# Altium schematic symbol library RPSLib.SchLib: 241 symbols (part 5 of 8)
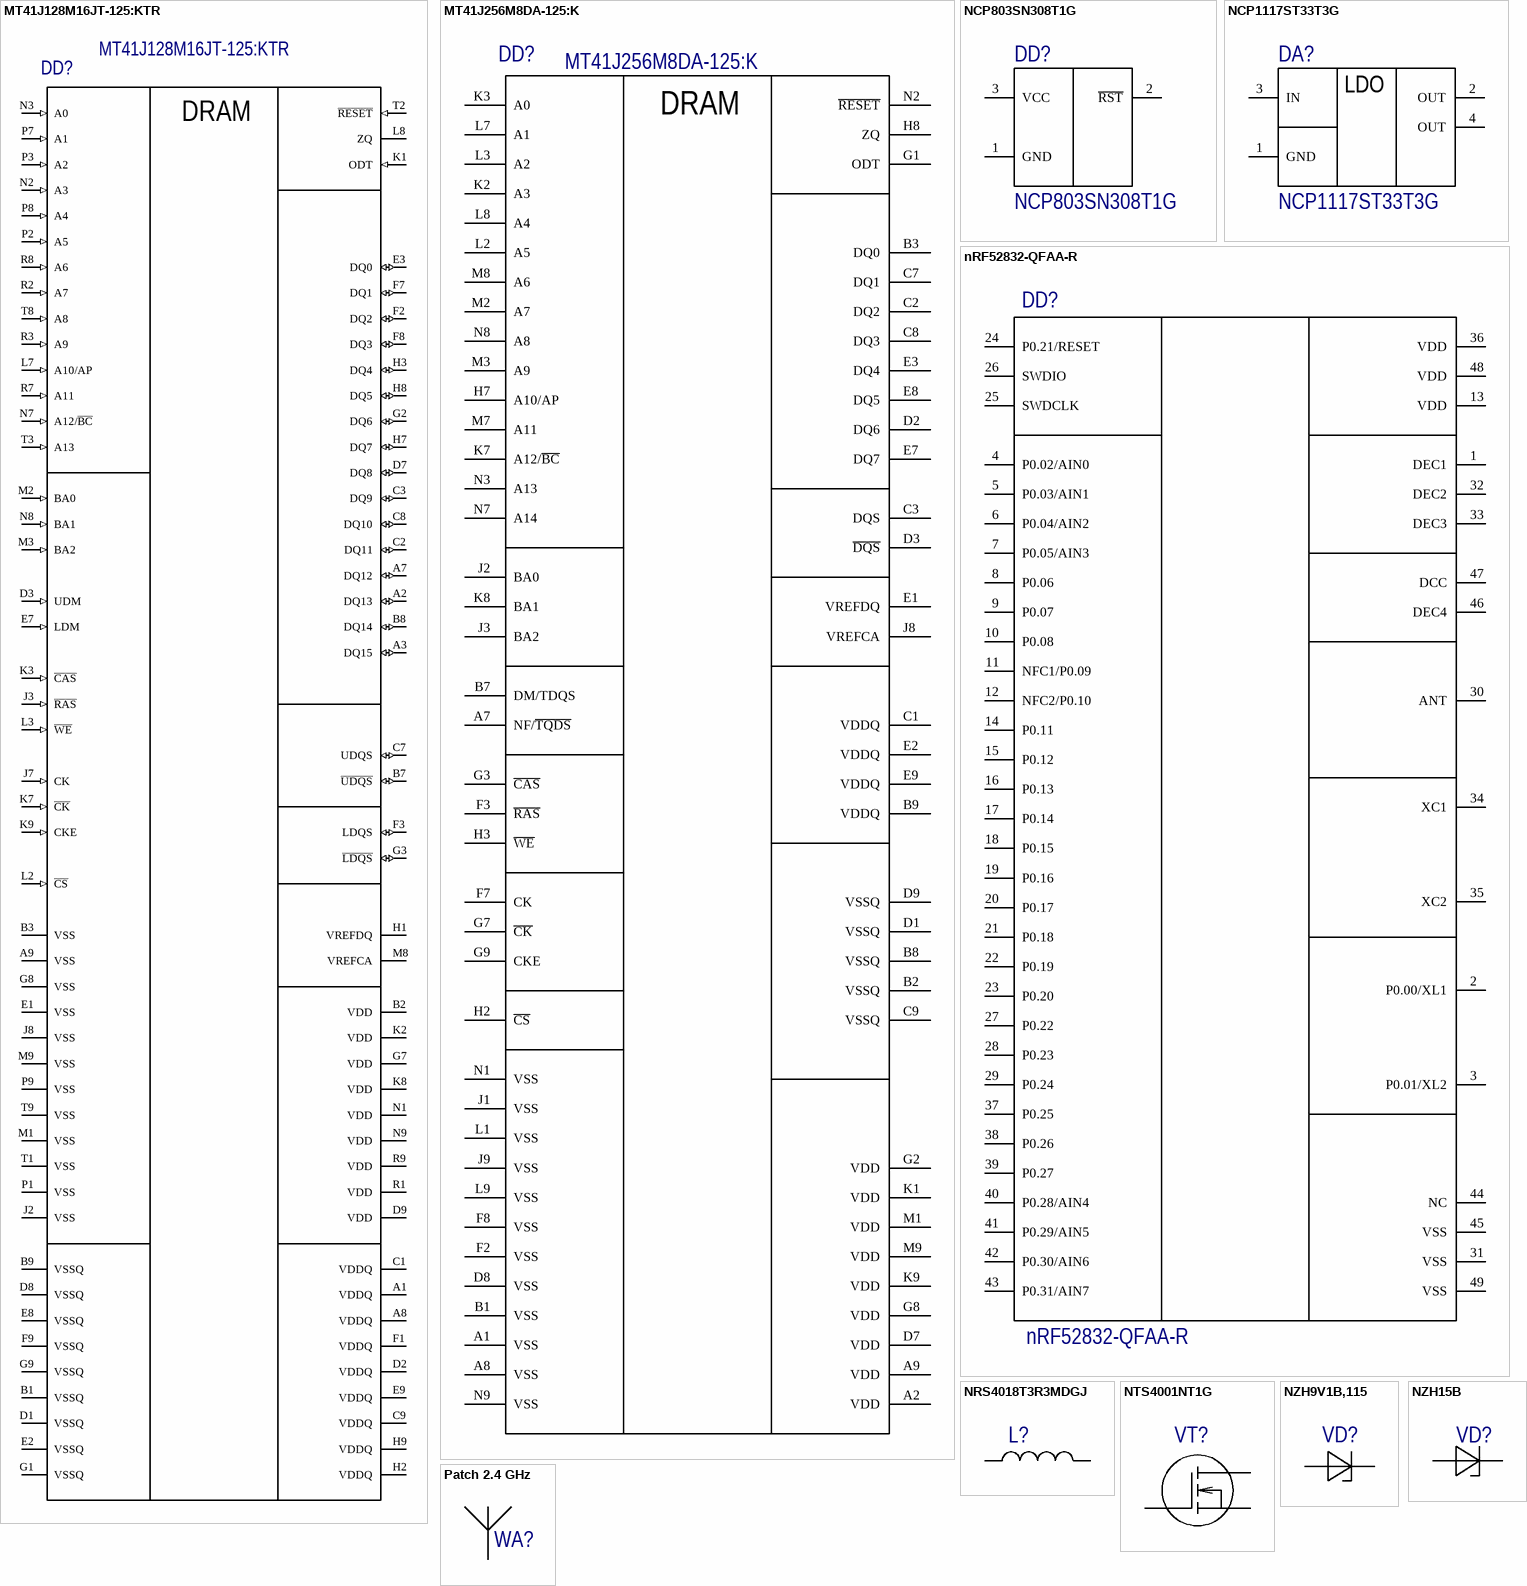
[diagram p29: symbols MT41J128M16JT-125:KTR to Patch 2.4 GHz]

## NCP803SN308T1G
designator DD?
IC MPU RESET MONITOR 3.08V SOT23; Manufacturer: ON Semiconductor; Min Supply Voltage: 1.2V; Max Supply Voltage: 5.5V; Nominal Supply Current: 800nA; Number of Voltages Monitored: 1; Reset: Active Low; Reset Timeout: 140ms; Overvoltage Threshold: 3.11V; Watchdog Timer: No; Min Reset Threshold Voltage: 3.04V; Supplier 1: Digi-Key; Manufacturer Part Number: NCP803SN308T1G; Stock 1: 17057; Pricing 1: 1=0.61, 10=0.534, 100=0.4094, 500=0.32362, 1000=0.2589 (USD); Mount: Surface Mount; Case/Package: SOT-23; Number of Pins: 3; Min Operating Temperature: -40°C; Max Operating Temperature: 105°C; Package Quantity: 3000; Packaging: Tape and Reel; Type: Simple Reset/Power-On Reset; Threshold Voltage: 3.08V; Undervoltage Threshold: 3.08V; Operating Supply Current: 800nA; Number of Elements: 1; Max Reset Threshold Voltage: 3.11V; Length: 2.2mm; Height: 0.9mm; Width: 1.35mm; Radiation Hardening: No; REACH SVHC: No SVHC; Lead Free: Lead Free; Halogen Free: Halogen Free; ComponentLink1URL: http://www.onsemi.cn/pub_link/Collateral/MAX803-D.PDF; ComponentLink1Description: http://www.onsemi.cn/pub_link/Collateral/MAX803-D.PDF; ComponentLink2URL: http://www.onsemi.com/pub/Collateral/MAX803-D.PDF; ComponentLink2Description: http://www.onsemi.com/pub/Collateral/MAX803-D.PDF; ComponentLink3URL: http://www.alliedelec.com/images/products/datasheets/bm/ON_SEMICONDUCTOR/70300500.pdf; ComponentLink3Description: http://www.alliedelec.com/images/products/datasheets/bm/ON_SEMICONDUCTOR/70300500.pdf; ComponentLink4URL: http://datasheet.iiic.cc/on_semiconductor/NCP803SN308T1G.pdf; ComponentLink4Description: http://datasheet.iiic.cc/on_semiconductor/NCP803SN308T1G.pdf; Supplier Part Number 1: NCP803SN308T1GOSCT-ND
footprint SOT95P232X100-3N (SOT23, 3-Leads, Body 2.92x2.32mm, Pitch 0.95mm, IPC Medium Density)
pins: 1 GND (power), 2 ~{RST}, 3 VCC (power)

## NCP1117ST33T3G
designator DA?
ON SEMICONDUCTOR - NCP1117ST33T3G - Fixed LDO Voltage Regulator, 3.5V to 20V In, 1.07V Dropout, 3.3V/1A Out, SOT-223-3; Output Voltage: 3.3V; Number of Outputs: 1; Output Current: 1A; Max Supply Voltage: 15V; Min Supply Voltage: 4.75V; Input Bias Current: 6mA; Quiescent Current: 10mA; Polarity: Positive; Reference Voltage: 1.25V; Accuracy: 1%; Supplier 1: Digi-Key; Manufacturer: ON Semiconductor; Manufacturer Part Number: NCP1117ST33T3G; RoHS: Yes; Category: Voltage Regulators - Linear; Stock 1: 38312; Pricing 1: 1=0,46000, 10=0,39200, 25=0,36560, 100=0,27170, 250=0,22992, 500=0,21946, 1000=0,16198 (USD); Mount: Surface Mount; Case/Package: SOT-223; Number of Pins: 3; Contact Plating: Tin,Matte; Min Operating Temperature: 0°C; Max Operating Temperature: 125°C; Output Type: Fixed; Max Input Voltage: 20V; Packaging: Tape and Reel; Dropout Voltage: 1.07V; Max Output Current: 1A; Package Quantity: 1; Min Input Voltage: 3.5V; Nominal Output Voltage: 3.3V; Number of Regulators: 1; Min Current Limit: 1A; Min Output Voltage: 3.3V; Max Output Voltage: 3.3V; Termination: SMD/SMT; Output Voltage Accuracy: 1%; Length: 6.7mm; Height: 1.69mm; Width: 3.7mm; Radiation Hardening: No; REACH SVHC: No SVHC; Lead Free: Lead Free; Halogen Free: Halogen Free; ComponentLink1URL: https://datasheet.ciiva.com/3224/ncp1117-d-3224144.pdf?src-supplier=Avnet; ComponentLink1Description: https://datasheet.ciiva.com/3224/ncp1117-d-3224144.pdf?src-supplier=Avnet; ComponentLink2URL: https://datasheet.ciiva.com/22697/1726422-22697602.pdf?src-supplier=Element14; ComponentLink2Description: https://datasheet.ciiva.com/22697/1726422-22697602.pdf?src-supplier=Element14; ComponentLink3URL: https://datasheet.ciiva.com/15111/getdatasheetpartid-82718-15111483.pdf?src-supplier=Verical; ComponentLink3Description: https://datasheet.ciiva.com/15111/getdatasheetpartid-82718-15111483.pdf?src-supplier=Verical; ComponentLink4URL: https://datasheet.ciiva.com/2042/ncp1117-d-2042028.pdf?src-supplier=Digi-Key; ComponentLink4Description: https://datasheet.ciiva.com/2042/ncp1117-d-2042028.pdf?src-supplier=Digi-Key; ComponentLink5URL: https://datasheet.ciiva.com/8233/ncp1117-d-8233589.pdf?src-supplier=Avnet; ComponentLink5Description: https://datasheet.ciiva.com/8233/ncp1117-d-8233589.pdf?src-supplier=Avnet; ComponentLink6URL: https://datasheet.ciiva.com/2042/ncp1117-d-2042027.pdf?src-supplier=Digi-Key; ComponentLink6Description: https://datasheet.ciiva.com/2042/ncp1117-d-2042027.pdf?src-supplier=Digi-Key; ComponentLink7URL: https://datasheet.ciiva.com/16382/ncp1117-d-16382636.pdf?src-supplier=Future+Electronics; ComponentLink7Description: https://datasheet.ciiva.com/16382/ncp1117-d-16382636.pdf?src-supplier=Future+Electronics; ComponentLink8URL: https://datasheet.ciiva.com/8073/1726422-8073735.pdf?src-supplier=Element14; ComponentLink8Description: https://datasheet.ciiva.com/8073/1726422-8073735.pdf?src-supplier=Element14; ComponentLink9URL: https://datasheet.ciiva.com/28483/1748260-28483307.pdf?src-supplier=Element14; ComponentLink9Description: https://datasheet.ciiva.com/28483/1748260-28483307.pdf?src-supplier=Element14; ComponentLink10URL: https://datasheet.ciiva.com/2042/ncp1117-d-2042029.pdf?src-supplier=Digi-Key; ComponentLink10Description: https://datasheet.ciiva.com/2042/ncp1117-d-2042029.pdf?src-supplier=Digi-Key; Supplier Part Number 1: NCP1117ST33T3GOSCT-ND
footprint SOT230P700X180-4N (SOT223, 4-Leads, Body 6,50x7,00mm (avg), Pitch 2,30mm, IPC Medium Density)
pins: 1 GND (power), 2 OUT, 3 IN, 4 OUT
text: LDO

## nRF52832-QFAA-R
designator DD?
IC RF TxRx + MCU Bluetooth, General ISM > 1GHz Bluetooth v4.1 2.4GHz 48-VFQFN Exposed Pad; Manufacturer: Nordic Semiconductor; Manufacturer Part Number: NRF52832-QFAA-R7; Data Rate: 2Mbps; Sensitivity: -96dBm; Memory Size: 64KB; Number of GPIO: 32; Interface: I2C,SPI,UART; Memory Type: FLASH; Current - Receiving: 10.4mA; Current - Transmitting: 15.2mA; Data Bus Width: 32b; Core Architecture: ARM; РКД Наименование: NRF52832-QFAA - RF TxRx MCU Bluetooth IC; Supplier 1: Digi-Key; Stock 1: 194661; Pricing 1: 1=5.73, 10=5.119, 25=4.6068, 100=4.1974, 250=3.78788, 500=3.39886, 1000=2.8665 (USD); Mount: Surface Mount; Case/Package: QFN; Number of Pins: 48; Min Operating Temperature: -40°C; Max Operating Temperature: 85°C; Packaging: Tape and Reel; Frequency: 2.4GHz; RAM Size: 64Kb; Max Frequency: 2.4GHz; Lead Free: Lead Free; Supplier Part Number 1: 1490-1052-1-ND
footprint QFN40P600X600X90-48N (QFN, 48-Leads, Body 6,0x6,0mm (max), Pitch 0,40mm, IPC Medium Density)
pins: 1 DEC1, 2 P0.00/XL1, 3 P0.01/XL2, 4 P0.02/AIN0, 5 P0.03/AIN1, 6 P0.04/AIN2, 7 P0.05/AIN3, 8 P0.06, 9 P0.07, 10 P0.08, 11 NFC1/P0.09, 12 NFC2/P0.10, 13 VDD, 14 P0.11, 15 P0.12, 16 P0.13, 17 P0.14, 18 P0.15, 19 P0.16, 20 P0.17, 21 P0.18, 22 P0.19, 23 P0.20, 24 P0.21/RESET, 25 SWDCLK, 26 SWDIO, 27 P0.22, 28 P0.23, 29 P0.24, 30 ANT, 31 VSS, 32 DEC2, 33 DEC3, 34 XC1, 35 XC2, 36 VDD, 37 P0.25, 38 P0.26, 39 P0.27, 40 P0.28/AIN4, 41 P0.29/AIN5, 42 P0.30/AIN6, 43 P0.31/AIN7, 44 NC, 45 VSS, 46 DEC4, 47 DCC, 48 VDD, 49 VSS

## NRS4018T3R3MDGJ
designator L?  (value not drawn)
FIXED IND 3.3UH 2A 66 MOHM SMD; Manufacturer: Taiyo Yuden; Core Material: Ferrite; Self Resonant Frequency: 45MHz; Tolerance: 20%; Saturation Current: 2.3A; Shielding: Shielded; DC Resistance (DCR): 55mR; Test Frequency: 100kHz; Supplier 1: Digi-Key; Manufacturer Part Number: NRS4018T3R3MDGJ; Stock 1: 40068; Pricing 1: 1=0.29, 10=0.261, 100=0.1793, 500=0.15324, 1000=0.11738 (USD); Mount: Surface Mount; Case/Package: Nonstandard; Number of Pins: 2; Min Operating Temperature: -25°C; Max Operating Temperature: 125°C; Packaging: Tape and Reel; Current Rating: 2A; Inductance: 3.3uh; Composition: Wirewound; Inductance Tolerance: 20%; Package Quantity: 3500; Max DC Current: 2.3A; Termination: SMD/SMT; RMS Current (Irms): 2A; Length: 4mm; Height: 1.8mm; Width: 0.157inch; Height - Seated (Max): 0.071inch; Depth: 4.2mm; Lead Pitch: 2.8mm; Radiation Hardening: No; REACH SVHC: Unknown; Lead Free: Lead Free; Halogen Free: Halogen Free; Supplier Part Number 1: 587-2892-1-ND; РКД Наименование: *
footprint NRS4018 (Fixed inductor 4.0x4.0x1.8 mm)
pins: 1, 2

## NTS4001NT1G
designator VT?  (value not drawn)
MOSFET N-CH 30V 270MA SOT-323; Manufacturer: ON Semiconductor; Nominal Vgs: 1.2V; Input Capacitance: 33pF; Number of Elements: 1; Max Power Dissipation: 330mW; Rise Time: 23ns; Rds On Max: 1.5R; Turn-Off Delay Time: 94ns; Turn-On Delay Time: 17ns; Element Configuration: Single; Gate to Source Voltage (Vgs): 20V; On-State Resistance: 1R; Supplier 1: Digi-Key; Manufacturer Part Number: NTS4001NT1G; RoHS: Yes; Category: MOSFETs; Stock 1: 199118; Pricing 1: 1=0,39000, 10=0,31600, 100=0,12920, 500=0,10776, 1000=0,07487 (USD); Case/Package: SC; Number of Pins: 3; Contact Plating: Tin,Matte; Min Operating Temperature: -55°C; Max Operating Temperature: 150°C; Package Quantity: 3000; Packaging: Tape and Reel; Continuous Drain Current (ID): 270mA; Drain to Source Breakdown Voltage: 30V; Fall Time: 23ns; Power Dissipation: 330mW; Drain to Source Resistance: 1.5R; Threshold Voltage: 1.2V; Voltage Rating (DC): 30V; Current Rating: 270mA; Length: 2.2mm; Height: 0.9mm; Width: 1.35mm; Radiation Hardening: No; REACH SVHC: No SVHC; Lead Free: Lead Free; ComponentLink1URL: https://datasheet.ciiva.com/30479/0900766b81206072-30479665.pdf?src-supplier=RSComponents; ComponentLink1Description: https://datasheet.ciiva.com/30479/0900766b81206072-30479665.pdf?src-supplier=RSComponents; ComponentLink2URL: https://datasheet.ciiva.com/26145/nts4001n-d-26145698.pdf?src-supplier=Avnet+Europe; ComponentLink2Description: https://datasheet.ciiva.com/26145/nts4001n-d-26145698.pdf?src-supplier=Avnet+Europe; ComponentLink3URL: https://datasheet.ciiva.com/23868/86002-23868099.pdf?src-supplier=Newark; ComponentLink3Description: https://datasheet.ciiva.com/23868/86002-23868099.pdf?src-supplier=Newark; ComponentLink4URL: https://datasheet.ciiva.com/11168/nts4001n-d-11168198.pdf?src-supplier=Avnet; ComponentLink4Description: https://datasheet.ciiva.com/11168/nts4001n-d-11168198.pdf?src-supplier=Avnet; ComponentLink5URL: https://datasheet.ciiva.com/30479/0900766b81206072-30479659.pdf?src-supplier=RSComponents; ComponentLink5Description: https://datasheet.ciiva.com/30479/0900766b81206072-30479659.pdf?src-supplier=RSComponents; ComponentLink6URL: https://datasheet.ciiva.com/13060/nts4001n-d-98833-13060653.pdf?src-supplier=Mouser; ComponentLink6Description: https://datasheet.ciiva.com/13060/nts4001n-d-98833-13060653.pdf?src-supplier=Mouser; ComponentLink7URL: https://datasheet.ciiva.com/8059/86002-8059418.pdf?src-supplier=Element14; ComponentLink7Description: https://datasheet.ciiva.com/8059/86002-8059418.pdf?src-supplier=Element14; ComponentLink8URL: https://datasheet.ciiva.com/936/nts4001n-d-936827.pdf?src-supplier=Digi-Key; ComponentLink8Description: https://datasheet.ciiva.com/936/nts4001n-d-936827.pdf?src-supplier=Digi-Key; ComponentLink9URL: https://datasheet.ciiva.com/8059/86002-8059419.pdf?src-supplier=Element14; ComponentLink9Description: https://datasheet.ciiva.com/8059/86002-8059419.pdf?src-supplier=Element14; Supplier Part Number 1: NTS4001NT1GOSCT-ND
footprint SOT65P220X100-3N (SOT23, 3-Leads, Body 2,00x2,20mm, Pitch 0,65mm, IPC Medium Density)
pins: 1 G, 2 S, 3 D
1 alternate drawing of the same symbol

## NZH9V1B,115
designator VD?  (value not drawn)
Diode Zener Single 9.04V 2% 1W Automotive 2-Pin Sod-123F T/R; Manufacturer: NXP Semiconductors; Max Power Dissipation: 500mW; Max Reverse Leakage Current: 500nA; Impedance: 8R; Supplier 1: Digi-Key; Manufacturer Part Number: NZH9V1B,115; Stock 1: 19138; Pricing 1: 1=0.21, 10=0.174, 100=0.0925, 500=0.0608, 1000=0.0414 (USD); Mount: Surface Mount; Number of Pins: 2; Min Operating Temperature: -55°C; Max Operating Temperature: 150°C; Zener Voltage: 9.04V; Element Configuration: Single; Packaging: Tape and Reel; Package Quantity: 1; Tolerance: 2%; Voltage Tolerance: 2%; Power Dissipation: 500mW; Radiation Hardening: No; Lead Free: Lead Free; ComponentLink1URL: http://www.nxp.com/documents/data_sheet/NZH_SER.pdf?src-supplier=Digi-Key; ComponentLink1Description: http://www.nxp.com/documents/data_sheet/NZH_SER.pdf?src-supplier=Digi-Key; ComponentLink2URL: http://www.nxp.com/documents/data_sheet/NZH_SER.pdf?src-supplier=Avnet+Europe; ComponentLink2Description: http://www.nxp.com/documents/data_sheet/NZH_SER.pdf?src-supplier=Avnet+Europe; Supplier Part Number 1: 1727-5081-1-ND
footprint SODFL350X110-2N (SODFL, 2-Leads, Body 1,65x3,50mm, IPC Medium Density)
pins: 1, 2

## NZH15B
designator VD?  (value not drawn)
DIODE ZENER 15V 500MW SOD123F; Manufacturer: Nexperia; Manufacturer Part Number: NZH15B,115; Supplier 1: Digi-Key; RoHS: No; Stock 1: 14866; Pricing 1: 1=0,20000, 10=0,16600, 100=0,06800, 500=0,05670, 1000=0,03940 (USD); ComponentLink1URL: https://assets.nexperia.com/documents/data-sheet/NZH_SER.pdf?src-supplier=Digi-Key; ComponentLink1Description: https://assets.nexperia.com/documents/data-sheet/NZH_SER.pdf?src-supplier=Digi-Key; Supplier Part Number 1: 1727-5061-1-ND
footprint SODFL350X110-2N (SODFL, 2-Leads, Body 1,65x3,50mm, IPC Medium Density)
pins: 1, 2

## Patch 2.4 GHz
designator WA?  (value not drawn)  (net tie, no BOM)
footprint 2.4GHz Patch
pins: 1

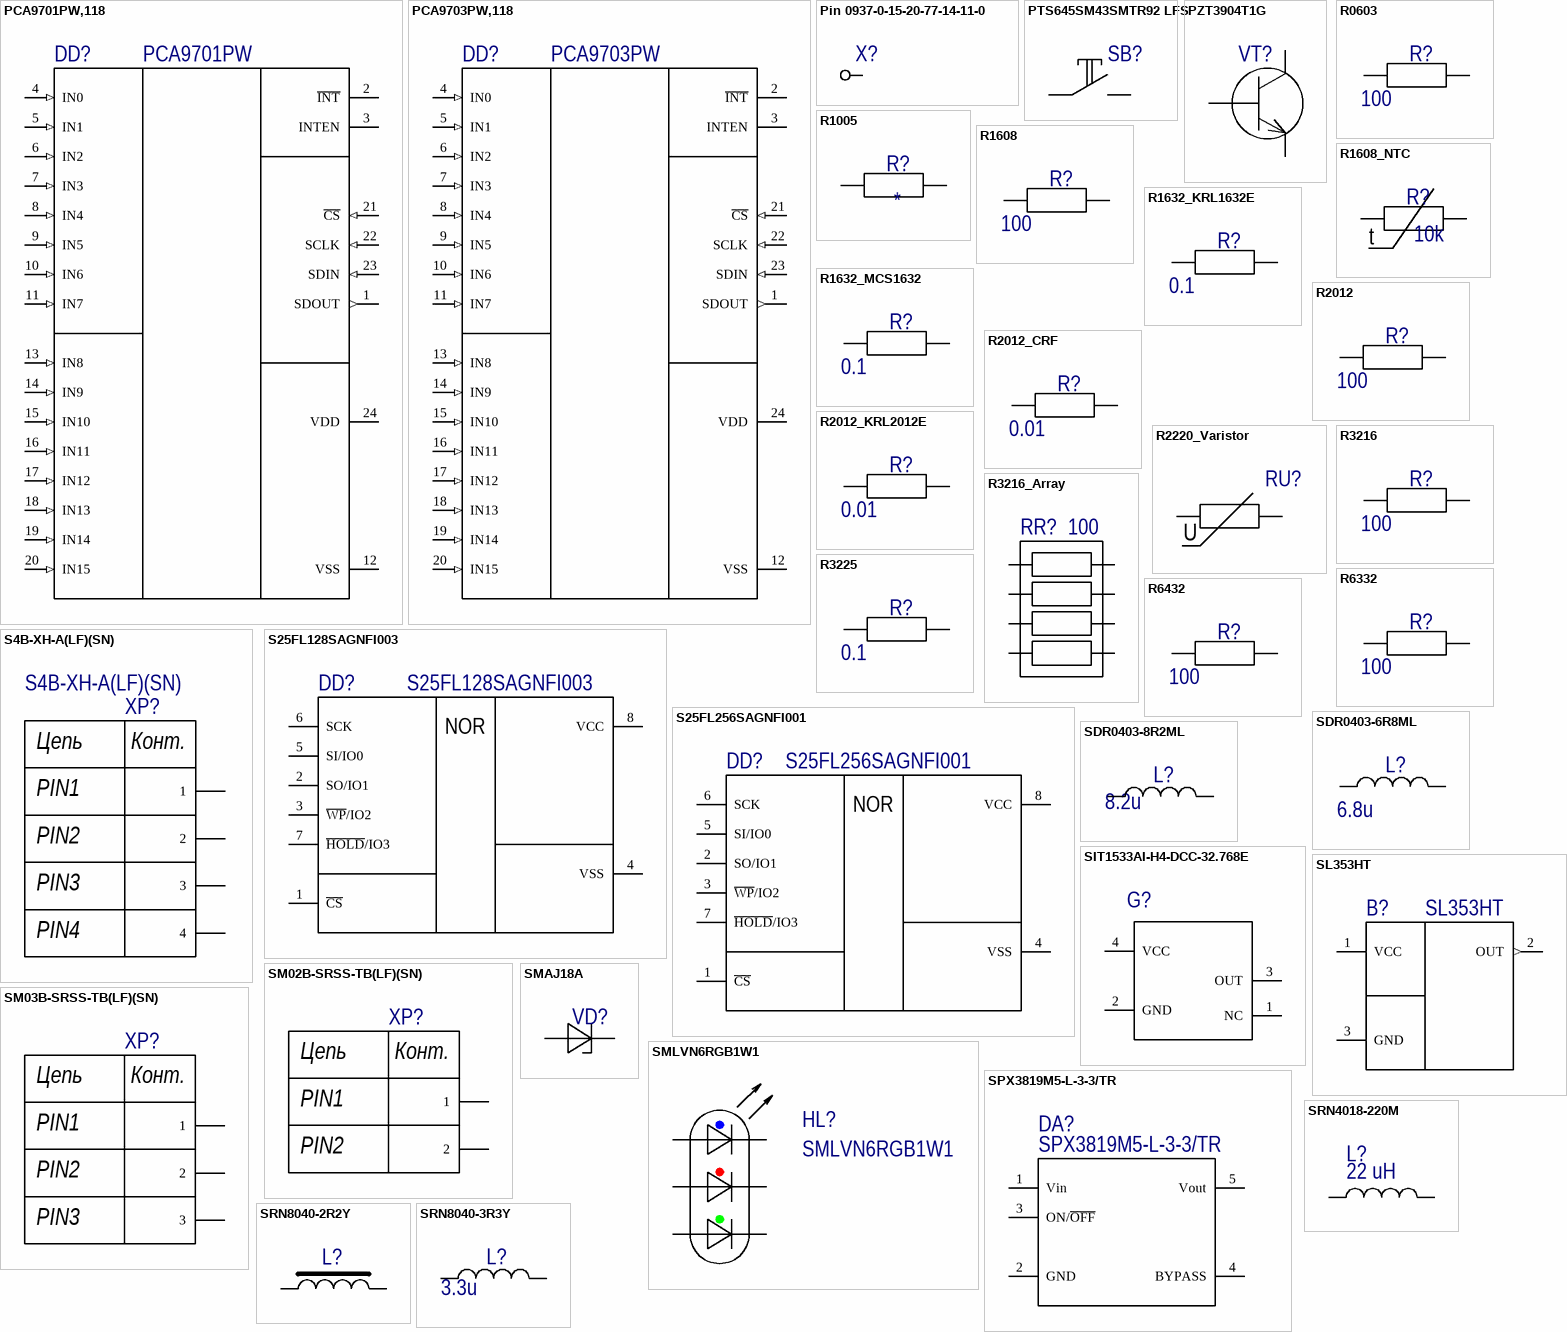
[diagram p9: symbols PCA9701PW,118 to SRN8040-3R3Y]

## PCA9701PW,118
designator DD?, comment PCA9701PW
IC, GPI SHIFT REGISTER, 16BIT, TSSOP-24; Manufacturer: NXP Semiconductors; Manufacturer Part Number: PCA9701PW,118; Interface: SPI,Serial; Nominal Supply Current: 1uA; Max Supply Voltage: 5.5V; Max Frequency: 5MHz; Supplier 1: Digi-Key; RoHS: Yes; Category: Clock and Timing; Stock 1: 3395; Pricing 1: 1=1,63000, 10=1,46100, 100=1,17440, 500=0,96488, 1000=0,79947 (USD); Mount: Surface Mount; Case/Package: TSSOP; Number of Pins: 24; Min Operating Temperature: -40°C; Max Operating Temperature: 125°C; Packaging: Tape and Reel; Package Quantity: 1; Radiation Hardening: No; Lead Free: Lead Free; ComponentLink1URL: https://datasheet.ciiva.com/15095/getdatasheetpartid-429891-15095616.pdf?src-supplier=Verical; ComponentLink1Description: https://datasheet.ciiva.com/15095/getdatasheetpartid-429891-15095616.pdf?src-supplier=Verical; ComponentLink2URL: https://datasheet.ciiva.com/1600/1766324-1600707.pdf?src-supplier=Newark; ComponentLink2Description: https://datasheet.ciiva.com/1600/1766324-1600707.pdf?src-supplier=Newark; ComponentLink3URL: https://datasheet.ciiva.com/1784/pca9701-pca9702-1784138.pdf?src-supplier=Digi-Key; ComponentLink3Description: https://datasheet.ciiva.com/1784/pca9701-pca9702-1784138.pdf?src-supplier=Digi-Key; ComponentLink4URL: https://datasheet.ciiva.com/17394/pca9701-pca9702-17394716.pdf?src-supplier=Avnet+Europe; ComponentLink4Description: https://datasheet.ciiva.com/17394/pca9701-pca9702-17394716.pdf?src-supplier=Avnet+Europe; ComponentLink5URL: https://datasheet.ciiva.com/4826/pca9701-pca9702-4826287.pdf?src-supplier=Mouser; ComponentLink5Description: https://datasheet.ciiva.com/4826/pca9701-pca9702-4826287.pdf?src-supplier=Mouser; ComponentLink6URL: https://datasheet.ciiva.com/1784/pca9701-pca9702-1784136.pdf?src-supplier=Digi-Key; ComponentLink6Description: https://datasheet.ciiva.com/1784/pca9701-pca9702-1784136.pdf?src-supplier=Digi-Key; ComponentLink7URL: https://datasheet.ciiva.com/1784/pca9701-pca9702-1784137.pdf?src-supplier=Digi-Key; ComponentLink7Description: https://datasheet.ciiva.com/1784/pca9701-pca9702-1784137.pdf?src-supplier=Digi-Key; Supplier Part Number 1: 568-4290-1-ND
footprint TSOP65P640X110-24N (TSOP, 24-Leads, Body 7,80x4,40mm, Pitch 0,65mm, IPC Medium Density)
pins: 1 SDOUT (out), 2 ~{INT}, 3 INTEN, 4 IN0 (in), 5 IN1 (in), 6 IN2 (in), 7 IN3 (in), 8 IN4 (in), 9 IN5 (in), 10 IN6 (in), 11 IN7 (in), 12 VSS (power), 13 IN8 (in), 14 IN9 (in), 15 IN10 (in), 16 IN11 (in), 17 IN12 (in), 18 IN13 (in), 19 IN14 (in), 20 IN15 (in), 21 ~{CS} (in), 22 SCLK (in), 23 SDIN (in), 24 VDD (power)

## PCA9703PW,118
designator DD?, comment PCA9703PW
IC SHIFT REG SPI GPI 24TSSOP; Manufacturer: NXP Semiconductors; Manufacturer Part Number: PCA9703PW,118; Interface: SPI,Serial; Nominal Supply Current: 1uA; Max Supply Voltage: 5.5V; Supplier 1: Digi-Key; RoHS: Yes; Category: Interface ICs; Stock 1: 6020; Pricing 1: 1=1,78000, 10=1,59900, 100=1,28520, 500=1,05590, 1000=0,87489 (USD); Mount: Surface Mount; Case/Package: TSSOP; Number of Pins: 24; Min Operating Temperature: -40°C; Max Operating Temperature: 125°C; Packaging: Tape and Reel; Package Quantity: 2500; Radiation Hardening: No; Lead Free: Lead Free; ComponentLink1URL: https://datasheet.ciiva.com/1784/pca9703-1784051.pdf?src-supplier=Digi-Key; ComponentLink1Description: https://datasheet.ciiva.com/1784/pca9703-1784051.pdf?src-supplier=Digi-Key; ComponentLink2URL: https://datasheet.ciiva.com/1784/pca9703-1784052.pdf?src-supplier=Digi-Key; ComponentLink2Description: https://datasheet.ciiva.com/1784/pca9703-1784052.pdf?src-supplier=Digi-Key; ComponentLink3URL: https://datasheet.ciiva.com/1784/pca9703-1784053.pdf?src-supplier=Digi-Key; ComponentLink3Description: https://datasheet.ciiva.com/1784/pca9703-1784053.pdf?src-supplier=Digi-Key; ComponentLink4URL: https://datasheet.ciiva.com/17394/pca9703-17394725.pdf?src-supplier=Avnet+Europe; ComponentLink4Description: https://datasheet.ciiva.com/17394/pca9703-17394725.pdf?src-supplier=Avnet+Europe; ComponentLink5URL: https://datasheet.ciiva.com/8254/pca9703-8254679.pdf?src-supplier=Avnet; ComponentLink5Description: https://datasheet.ciiva.com/8254/pca9703-8254679.pdf?src-supplier=Avnet; ComponentLink6URL: https://datasheet.ciiva.com/8255/pca9703-8255551.pdf?src-supplier=Avnet; ComponentLink6Description: https://datasheet.ciiva.com/8255/pca9703-8255551.pdf?src-supplier=Avnet; Supplier Part Number 1: 568-5114-1-ND
footprint TSOP65P640X110-24N (TSOP, 24-Leads, Body 7,80x4,40mm, Pitch 0,65mm, IPC Medium Density)
pins: 1 SDOUT (out), 2 ~{INT}, 3 INTEN, 4 IN0 (in), 5 IN1 (in), 6 IN2 (in), 7 IN3 (in), 8 IN4 (in), 9 IN5 (in), 10 IN6 (in), 11 IN7 (in), 12 VSS (power), 13 IN8 (in), 14 IN9 (in), 15 IN10 (in), 16 IN11 (in), 17 IN12 (in), 18 IN13 (in), 19 IN14 (in), 20 IN15 (in), 21 ~{CS} (in), 22 SCLK (in), 23 SDIN (in), 24 VDD (power)

## Pin 0937-0-15-20-77-14-11-0
designator X?, comment Mill Max Spring loaded  (value not drawn)
Manufacturer: Mill-Max; Manufacturer Part Number: 0937-0-15-20-77-14-11-0; РКД Наименование: 0937-0-15-20-77-14-11-0 - Пружинный контакт; Supplier 1: Digi-Key; Stock 1: 716; Pricing 1: 1=0.96, 10=0.845, 25=0.7948, 50=0.7618, 100=0.7286, 250=0.6624, 500=0.59616, 1000=0.52992, 2500=0.48024 (USD); Supplier Part Number 1: ED10176-ND
footprint Mill Max 0937 (Mill Max Long stroke, Surface mount)
pins: 1

## PTS645SM43SMTR92 LFS
designator SB?  (value not drawn)
SWITCH TACTILE SPST-NO 0.05A 12V; Manufacturer: ITT C&K; Mechanical Life: 100000Cycles; Actuator Material: Nylon,Polyamide; Throw Configuration: SPST; Operating Force: 160gf; Contact Resistance: 100mR; Max Current Rating: 50mA; Illumination Type: Illuminated,Non-Illuminated; Switch Function: Off-Mom; Actuator Type: Standard; Actuator Length: 0.85mm; РКД Наименование: *; Supplier 1: Digi-Key; Manufacturer Part Number: PTS645SM43SMTR92LFS; Stock 1: 537538; Pricing 1: 1=0.16, 10=0.157, 25=0.1516, 50=0.1462, 100=0.1381, 250=0.12996, 500=0.12452 (USD); Mount: Surface Mount; Case/Package: SMD/SMT; Contact Plating: Silver; Contact Material: Silver; Colour: Black; Min Operating Temperature: -20°C; Max Operating Temperature: 60°C; Max Voltage Rating (DC): 12V; Packaging: Tape and Reel; Termination: Gull Wing; Package Quantity: 1000; Current Rating: 50mA; Voltage Rating (DC): 12V; Orientation: Straight; Length: 6mm; Depth: 9mm; Lead Free: Lead Free; REACH SVHC: No SVHC; ComponentLink1URL: https://www.verical.com/server-webapp/html/getDatasheet?partID=786341; ComponentLink1Description: https://www.verical.com/server-webapp/html/getDatasheet?partID=786341; ComponentLink2URL: https://www.ckswitches.com/media/1471/pts645.pdf; ComponentLink2Description: https://www.ckswitches.com/media/1471/pts645.pdf; ComponentLink3URL: https://www.verical.com/server-webapp/html/getDatasheet?partID=764615; ComponentLink3Description: https://www.verical.com/server-webapp/html/getDatasheet?partID=764615; Supplier Part Number 1: CKN9112CT-ND
footprint PTS645_SMT (SMD tactile switch)
pins: 1, 2

## PZT3904T1G
designator VT?  (value not drawn)
Trans GP BJT NPN 40V 0.2A Automotive 4-Pin(3+Tab) SOT-223 T/R; Manufacturer: ON Semiconductor; Max Power Dissipation: 1.5W; Max Collector Current: 200mA; Transition Frequency: 300MHz; Collector Base Voltage (VCBO): 60V; Emitter Base Voltage (VEBO): 6V; Collector Emitter Saturation Voltage: 300mV; Element Configuration: Single; Number of Elements: 1; hFE Min: 40; Supplier 1: Digi-Key; Manufacturer Part Number: PZT3904T1G; RoHS: Yes; Category: BJTs; Stock 1: 11607; Pricing 1: 1=0,43000, 10=0,32300, 25=0,29080, 100=0,15340, 250=0,15184, 500=0,13596 (USD); Case/Package: SOT-223-4; Number of Pins: 4; Contact Plating: Tin,Matte; Min Operating Temperature: -55°C; Max Operating Temperature: 150°C; Collector Emitter Voltage (VCEO): 40V; Packaging: Tape and Reel; Package Quantity: 1; Polarity: NPN; Collector Emitter Breakdown Voltage: 40V; Gain Bandwidth Product: 300MHz; Voltage Rating (DC): 40V; Current Rating: 200mA; Frequency: 300MHz; Max Breakdown Voltage: 40V; Power Dissipation: 1.5W; Max Frequency: 300MHz; Length: 6.7mm; Height: 1.65mm; Width: 3.7mm; Radiation Hardening: No; Lead Free: Lead Free; REACH SVHC: No SVHC; ComponentLink1URL: https://datasheet.ciiva.com/976/pzt3904t1-d-976720.pdf?src-supplier=Digi-Key; ComponentLink1Description: https://datasheet.ciiva.com/976/pzt3904t1-d-976720.pdf?src-supplier=Digi-Key; ComponentLink2URL: https://datasheet.ciiva.com/11197/pzt3904t1-d-11197712.pdf?src-supplier=Avnet; ComponentLink2Description: https://datasheet.ciiva.com/11197/pzt3904t1-d-11197712.pdf?src-supplier=Avnet; ComponentLink3URL: https://datasheet.ciiva.com/30480/0900766b8127cb0f-30480711.pdf?src-supplier=RSComponents; ComponentLink3Description: https://datasheet.ciiva.com/30480/0900766b8127cb0f-30480711.pdf?src-supplier=RSComponents; ComponentLink4URL: https://datasheet.ciiva.com/15139/getdatasheetpartid-140997-15139465.pdf?src-supplier=Verical; ComponentLink4Description: https://datasheet.ciiva.com/15139/getdatasheetpartid-140997-15139465.pdf?src-supplier=Verical; ComponentLink5URL: https://datasheet.ciiva.com/25997/pzt3904t1-d-25997621.pdf?src-supplier=Avnet+Europe; ComponentLink5Description: https://datasheet.ciiva.com/25997/pzt3904t1-d-25997621.pdf?src-supplier=Avnet+Europe; ComponentLink6URL: https://datasheet.ciiva.com/11201/pzt3904t1-d-11201548.pdf?src-supplier=Avnet; ComponentLink6Description: https://datasheet.ciiva.com/11201/pzt3904t1-d-11201548.pdf?src-supplier=Avnet; ComponentLink7URL: https://datasheet.ciiva.com/16479/pzt3904t1-d-16479932.pdf?src-supplier=Future+Electronics; ComponentLink7Description: https://datasheet.ciiva.com/16479/pzt3904t1-d-16479932.pdf?src-supplier=Future+Electronics; ComponentLink8URL: https://datasheet.ciiva.com/4721/pzt3904t1-d-100851-4721821.pdf?src-supplier=Mouser; ComponentLink8Description: https://datasheet.ciiva.com/4721/pzt3904t1-d-100851-4721821.pdf?src-supplier=Mouser; Supplier Part Number 1: PZT3904T1GOSCT-ND
footprint SOT230P700X180-4N PZT3904 (SOT223, 4-Leads, Body 6,50x7,00mm (avg), Pitch 2,30mm, IPC Medium Density)
pins: 1 B, 2 C, 3 E

## R0603
designator R?  value 100  (hidden comment: R0603)
Резистор 0.6x0.3 мм; Type: *; PartNo: *; Supplier 1: *; Supplier Part Number 1: *; Manufacturer Part Number: *; Manufacturer: *
footprint RESC0603X02N (Chip Resistor, 2-Leads, Body 0.60x0.30mm, IPC Medium Density)
pins: 1, 2

## R1005
designator R?  (value not drawn)
Резистор 1.0x0.5 мм; Tolerance: ±*%; РКД Наименование: RC1005M - * Ohm ±*%; Type: *; PartNo: *; Supplier 1: *; Supplier Part Number 1: *; Manufacturer: *; Manufacturer Part Number: *; Value: *
footprint RESC1005X03L (Chip Resistor, 2-Leads, Body 1.00x0.50mm, IPC High Density)
footprint RESC1005X03N (Chip Resistor, 2-Leads, Body 1.00x0.50mm, IPC Medium Density)
pins: 1, 2

## R1608
designator R?  value 100  (hidden comment: R1608)
Резистор 1.6x0.8 мм; Tolerance: ±5%; РКД Наименование: RC1608M - 100 Ohm ±5%; Type: *; PartNo: *; Supplier 1: *; Supplier Part Number 1: *; Manufacturer: *; Manufacturer Part Number: *
footprint RESC1608X05N (Chip Resistor, 2-Leads, Body 1.60x0.80mm, IPC Medium Density)
pins: 1, 2

## R1608_NTC
designator R?  value 10k  (hidden comment: R1608_NTC)
Резистор 1.6x0.8 мм; Tolerance: ±5%; Type: *; PartNo: *; Supplier 1: *; Supplier Part Number 1: *; Manufacturer: *; Manufacturer Part Number: *
footprint RESC1608X05N (Chip Resistor, 2-Leads, Body 1.60x0.80mm, IPC Medium Density)
pins: 1, 2
text: t

## R1632_KRL1632E
designator R?  value 0.1  (hidden comment: *)
Резистор 1.6x3.2 мм; Tolerance: ±5%; Type: *; PartNo: *; Supplier 1: Digi-Key; Supplier Part Number 1: *; Manufacturer: *; Manufacturer Part Number: *
footprint RESC3216X05N_KRL1632 (Chip Resistor, 2-Leads, Body 3.20x1.60mm, IPC Medium Density)
pins: 1, 2

## R1632_MCS1632
designator R?  value 0.1  (hidden comment: *)
Резистор 1.6x3.2 мм; Tolerance: ±1%; Power: 1.0W; Type: *; PartNo: *; Supplier 1: Digi-Key; Supplier Part Number 1: *; Manufacturer Part Number: *; Manufacturer: *
footprint RESC3216X06N-MSC1632 (Chip Resistor, 2-Leads, Body 3.20x1.60mm, IPC Medium Density)
pins: 1, 2

## R2012
designator R?  value 100  (hidden comment: R2012)
Резистор 2.0x1.2 мм; Tolerance: ± *%; Type: *; PartNo: *; Supplier 1: *; Supplier Part Number 1: *; РКД Наименование: *; Manufacturer: *; Manufacturer Part Number: *
footprint RESC2012X06N (Chip Resistor, 2-Leads, Body 2.00x1.25mm, IPC Medium Density)
pins: 1, 2

## R2012_CRF
designator R?  value 0.01  (hidden comment: R2012_CRF)
Резистор 2.0x1.2 мм; Tolerance: 1%; Type: *; PartNo: *; Supplier 1: *; Supplier Part Number 1: *; Manufacturer Part Number: *; Manufacturer: *
footprint RESC2012X06N-CFR (Chip Resistor, 2-Leads, Body 1.95x1.25mm, IPC Medium Density)
pins: 1, 2

## R2012_KRL2012E
designator R?  value 0.01  (hidden comment: *)
Резистор 2.0x1.2 мм; Tolerance: ±5%; Type: *; PartNo: *; Supplier 1: Digi-Key; Supplier Part Number 1: *; Manufacturer Part Number: *; Manufacturer: *
footprint RESC1220X05N_KRL2012 (Chip Resistor, 2-Leads, Body 1.25x2.00mm, IPC Medium Density)
pins: 1, 2

## R2220_Varistor
designator RU?  (value not drawn)
Резистор 1.6x0.8 мм; Tolerance: ±5%; Value: 56V; Type: *; PartNo: *; Supplier 1: Digi-Key; Supplier Part Number 1: *; Manufacturer Part Number: *; Manufacturer: *
footprint RESC5750X25N (Chip Resistor, 2-Leads, Body 5.70x5.00mm, IPC Medium Density)
pins: 1, 2
1 alternate drawing of the same symbol
text: U

## R3216
designator R?  value 100  (hidden comment: R3216)
Резистор 3.2x1.6 мм; Tolerance: ± *%; Type: *; PartNo: *; Supplier 1: *; Supplier Part Number 1: *; Manufacturer: *; Manufacturer Part Number: *
footprint RESC3216X06N (Chip Resistor, 2-Leads, Body 3.20x1.60mm, IPC Medium Density)
pins: 1, 2

## R3216_Array
designator RR?  value 100  (hidden comment: R3216_Array)
Резисторы 3.2x1.6 мм; Tolerance: ±5%; Type: *; PartNo: *; Supplier 1: *; Supplier Part Number 1: *; Manufacturer Part Number: *; Manufacturer: *
footprint CAC-80P319X159-8N (Chip Array, ConvexS, 8-Leads, Pitch 0.80mm,  Body 3.20x1.60mm,  IPC Medium Density)
pins: 1, 2, 3, 4, 5, 6, 7, 8

## R3225
designator R?  value 0.1  (hidden comment: R3225)
Резистор 3.2x2.5 мм; Tolerance: ± *%; Type: *; PartNo: *; Supplier 1: *; Supplier Part Number 1: *; Manufacturer: *; Manufacturer Part Number: *
footprint RESC3225X06N (Chip Resistor, 2-Leads, Body 3.20x2.50mm, IPC Medium Density)
pins: 1, 2

## R6332
designator R?  value 100  (hidden comment: R6332)
Резистор 6.3x3.2 мм; Tolerance: ±5%; Type: *; PartNo: *; Supplier 1: *; Supplier Part Number 1: *; Manufacturer Part Number: *; Manufacturer: *
footprint RESC6332X06N (Chip Resistor, 2-Leads, Body 6.30x3.20mm, IPC Medium Density)
pins: 1, 2

## R6432
designator R?  value 100  (hidden comment: R6432)
Резистор 6.4x3.2 мм; Type: *; PartNo: *; Supplier 1: *; Supplier Part Number 1: *; Manufacturer Part Number: *; Manufacturer: *
footprint RESC6432X07N (Chip Resistor, 2-Leads, Body 6.4x3.2mm, IPC Medium Density)
pins: 1, 2

## S4B-XH-A(LF)(SN)
designator XP?
CONN HEADER R/A 4POS 2.5MM; Manufacturer: JST; Current Rating: 3A; Voltage Rating: 250V; Contact Resistance: 20mR; Number of Positions: 4; Insulation Resistance: 1GR; Gender: Male; Connector Type: Male Pin; Wire/Cable Gauge: 22AWG; Supplier 1: Digi-Key; Manufacturer Part Number: S4B-XH-A(LF)(SN); RoHS: Yes; Category: Headers and Wire Housings; Stock 1: 9755; Pricing 1: 1=0,27000, 10=0,25700, 100=0,17850, 500=0,15100, 1000=0,12355, 5000=0,10982, 10000=0,09953 (USD); Mount: Through Hole; Contact Material: Brass; Color: Natural; Contact Plating: Tin,Lead,Copper; Housing Color: White; Housing Material: Polyamide; Min Operating Temperature: -25°C; Max Operating Temperature: 85°C; Package Quantity: 500; Number of Rows: 1; Packaging: Bulk; Voltage Rating (AC): 250V; Max Current Rating: 3A; Termination: Press-Fit; Number of Contacts: 4; Max Voltage Rating (AC): 250V; Orientation: Right Angle; Length: 12.4mm; Pitch: 2.5mm; Lead Pitch: 2.5mm; Depth: 11.5mm; REACH SVHC: No SVHC; Lead Free: Lead Free; ComponentLink1URL: https://datasheet.ciiva.com/726/exh-726400.pdf?src-supplier=Digi-Key; ComponentLink1Description: https://datasheet.ciiva.com/726/exh-726400.pdf?src-supplier=Digi-Key; ComponentLink2URL: https://datasheet.ciiva.com/26924/getdatasheetpartid-449045-26924078.pdf?src-supplier=Verical; ComponentLink2Description: https://datasheet.ciiva.com/26924/getdatasheetpartid-449045-26924078.pdf?src-supplier=Verical; ComponentLink3URL: https://datasheet.ciiva.com/8052/5448-8052236.pdf?src-supplier=Element14; ComponentLink3Description: https://datasheet.ciiva.com/8052/5448-8052236.pdf?src-supplier=Element14; Supplier Part Number 1: 455-2243-ND
pins: 1, 2, 3, 4
text: Цепь; Конт.; PIN1; PIN2; PIN3; PIN4

## S25FL128SAGNFI003
designator DD?
128-MBIT CMOS 3.0 VOLT 65NM FLASH MEMORY WITH 13; Manufacturer: Spansion; Density: 128Mb; Memory Type: NOR; Access Time: 8ns; Interface: SPI,Serial; Address Bus Width: 1b; Max Supply Voltage: 3.6V; Min Supply Voltage: 2.7V; Frequency: 133MHz; Nominal Supply Current: 75mA; Data Bus Width: 8b; Sync/Async: Synchronous; Supplier 1: Digi-Key; Manufacturer Part Number: S25FL128SAGNFI003; RoHS: Yes; Category: Memory; Stock 1: 8341; Pricing 1: 1=3,27000, 10=2,96900, 25=2,90480, 50=2,88880, 100=2,59080, 250=2,58116, 500=2,48608, 1000=2,36363 (USD); Number of Pins: 8; Min Operating Temperature: -40°C; Max Operating Temperature: 85°C; Packaging: Tape and Reel; Word Size: 1b; Package Quantity: 2500; Max Frequency: 133MHz; Memory Size: 128Mb; ComponentLink1URL: http://components.arrow.com/part/dataview/53548549S567604N3310?src-supplier=Arrow; ComponentLink1Description: http://components.arrow.com/part/dataview/53548549S567604N3310?src-supplier=Arrow; ComponentLink2URL: https://media.digikey.com/pdf/Data%20Sheets/Cypress%20PDFs/S25FL128_256S_Supplement.PDF?src-supplier=Digi-Key; ComponentLink2Description: https://media.digikey.com/pdf/Data%20Sheets/Cypress%20PDFs/S25FL128_256S_Supplement.PDF?src-supplier=Digi-Key; ComponentLink3URL: http://components.arrow.com/part/dataview/0323_06978422?src-supplier=Arrow+Europe; ComponentLink3Description: http://components.arrow.com/part/dataview/0323_06978422?src-supplier=Arrow+Europe; Supplier Part Number 1: 428-4003-1-ND
footprint SON127P800X80_HS-9N (SON, 8-Leads, Body 6,00x8,00mm, Pitch 1,27mm, Thermal Pad 4,80x4,65mm, IPC Medium Density)
pins: 1 ~{CS}, 2 SO/IO1, 3 ~{WP}/IO2, 4 VSS, 5 SI/IO0, 6 SCK, 7 ~{HOLD}/IO3, 8 VCC

## S25FL256SAGNFI001
designator DD?
CYPRESS SEMICONDUCTOR - S25FL256SAGNFI001 - Flash Memory, Serial NOR, 256 Mbit, 32M x 8bit, SPI, WSON, 8 Pins; Memory Type: FLASH,NOR; Frequency: 133MHz; Interface: SPI,Serial; Max Supply Voltage: 3.6V; Min Supply Voltage: 2.7V; Address Bus Width: 1b; Density: 256Mb; Access Time: 8ns; Supplier 1: Digi-Key; Manufacturer: Cypress; Manufacturer Part Number: S25FL256SAGNFI001; RoHS: Yes; Category: Memory; Stock 1: 26504; Pricing 1: 1=3,06000, 10=2,77600, 25=2,71600, 50=2,70100, 100=2,42230, 250=2,41328, 500=2,32440, 1000=2,20991 (USD); Mount: Surface Mount; Number of Pins: 8; Contact Plating: Tin,Matte; Min Operating Temperature: -40°C; Max Operating Temperature: 85°C; Packaging: Rail/Tube; Lead Free: Lead Free; ComponentLink1URL: http://www.farnell.com/datasheets/1911306.pdf?src-supplier=Farnell; ComponentLink1Description: http://www.farnell.com/datasheets/1911306.pdf?src-supplier=Farnell; ComponentLink2URL: http://www.farnell.com/datasheets/2277190.pdf?src-supplier=Farnell; ComponentLink2Description: http://www.farnell.com/datasheets/2277190.pdf?src-supplier=Farnell; ComponentLink3URL: http://www.farnell.com/datasheets/2277190.pdf?src-supplier=Newark; ComponentLink3Description: http://www.farnell.com/datasheets/2277190.pdf?src-supplier=Newark; ComponentLink4URL: http://www.cypress.com/file/177966/download?src-supplier=Digi-Key; ComponentLink4Description: http://www.cypress.com/file/177966/download?src-supplier=Digi-Key; ComponentLink5URL: http://www.spansion.com/Support/Datasheets/S25FL128S_256S_00.pdf?src-supplier=Avnet+Asia; ComponentLink5Description: http://www.spansion.com/Support/Datasheets/S25FL128S_256S_00.pdf?src-supplier=Avnet+Asia; Supplier Part Number 1: 1274-1005-ND
footprint SON127P800X80_HS-9N (SON, 8-Leads, Body 6,00x8,00mm, Pitch 1,27mm, Thermal Pad 4,80x4,65mm, IPC Medium Density)
pins: 1 ~{CS}, 2 SO/IO1, 3 ~{WP}/IO2, 4 VSS, 5 SI/IO0, 6 SCK, 7 ~{HOLD}/IO3, 8 VCC
text: NOR

## SDR0403-6R8ML
designator L?  value 6.8u  (hidden comment: *)
FIXED IND 6.8UH 1.41A 120 MOHM; Manufacturer: Bourns; Manufacturer Part Number: SDR0403-6R8ML; Core Material: Ferrite; Tolerance: 20%; DC Resistance (DCR): 120mR; Saturation Current: 2.1A; Shielding: Unshielded; Q Factor: 28; Self Resonant Frequency: 40MHz; Test Frequency: 1kHz; Supplier 1: Digi-Key; Stock 1: 3849; Pricing 1: 1=0,60000, 10=0,52300, 100=0,37380, 500=0,31396, 1000=0,25415 (USD); RoHS: Yes; Mount: Surface Mount; Case/Package: Nonstandard; Number of Pins: 2; Min Operating Temperature: -40°C; Max Operating Temperature: 125°C; Inductance: 6.8u; Max DC Current: 1.41A; Package Quantity: 2000; Current Rating: 1.41A; Packaging: Tape and Reel; Inductance Tolerance: 20%; Resistance: 120MR; Composition: Wirewound; Termination: SMD/SMT; DC Current: 1.41A; Military Standard: Not; RMS Current (Irms): 1.41A; Diameter: 4.5mm; Length: 0.177inch; Height: 3.2mm; Depth: 4.3mm; Width: 0.157inch; Height - Seated (Max): 0.126inch; Radiation Hardening: No; REACH SVHC: No SVHC; ComponentLink1URL: https://datasheet.ciiva.com/3868/41632003s8817166n1506-3868184.pdf?src-supplier=Arrow; ComponentLink1Description: https://datasheet.ciiva.com/3868/41632003s8817166n1506-3868184.pdf?src-supplier=Arrow; ComponentLink2URL: https://datasheet.ciiva.com/1049/sdr0403-1049153.pdf?src-supplier=Digi-Key; ComponentLink2Description: https://datasheet.ciiva.com/1049/sdr0403-1049153.pdf?src-supplier=Digi-Key; ComponentLink3URL: https://datasheet.ciiva.com/1049/sdr0403-1049154.pdf?src-supplier=Digi-Key; ComponentLink3Description: https://datasheet.ciiva.com/1049/sdr0403-1049154.pdf?src-supplier=Digi-Key; ComponentLink4URL: https://datasheet.ciiva.com/1049/sdr0403-1049155.pdf?src-supplier=Digi-Key; ComponentLink4Description: https://datasheet.ciiva.com/1049/sdr0403-1049155.pdf?src-supplier=Digi-Key; ComponentLink5URL: https://datasheet.ciiva.com/8515/sdr0403-8515909.pdf?src-supplier=Avnet; ComponentLink5Description: https://datasheet.ciiva.com/8515/sdr0403-8515909.pdf?src-supplier=Avnet; ComponentLink6URL: https://datasheet.ciiva.com/8517/sdr0403-8517749.pdf?src-supplier=Avnet; ComponentLink6Description: https://datasheet.ciiva.com/8517/sdr0403-8517749.pdf?src-supplier=Avnet; ComponentLink7URL: https://datasheet.ciiva.com/48956/70153447-48956565.pdf?src-supplier=Allied+Electronics; ComponentLink7Description: https://datasheet.ciiva.com/48956/70153447-48956565.pdf?src-supplier=Allied+Electronics; ComponentLink8URL: https://datasheet.ciiva.com/17286/sdr0403-17286507.pdf?src-supplier=Avnet+Europe; ComponentLink8Description: https://datasheet.ciiva.com/17286/sdr0403-17286507.pdf?src-supplier=Avnet+Europe; ComponentLink9URL: https://datasheet.ciiva.com/30189/sdr0403-30189980.pdf?src-supplier=Onlinecomponents.com; ComponentLink9Description: https://datasheet.ciiva.com/30189/sdr0403-30189980.pdf?src-supplier=Onlinecomponents.com; ComponentLink10URL: https://datasheet.ciiva.com/7849/1577668-7849631.pdf?src-supplier=Element14; ComponentLink10Description: https://datasheet.ciiva.com/7849/1577668-7849631.pdf?src-supplier=Element14; ComponentLink11URL: https://datasheet.ciiva.com/48691/001056087-da-01-en-leis-indukt-sdr0403-6r8ml-6-8uh-1-41a-48691893.pdf?src-supplier=Conrad; ComponentLink11Description: https://datasheet.ciiva.com/48691/001056087-da-01-en-leis-indukt-sdr0403-6r8ml-6-8uh-1-41a-48691893.pdf?src-supplier=Conrad; Supplier Part Number 1: SDR0403-6R8MLCT-ND
footprint SDR0403-3.2 (Bourns SDR0403 Inductor)
pins: 1, 2

## SDR0403-8R2ML
designator L?  value 8.2u  (hidden comment: *)
Bourns SDR0403 Series Wire-wound SMD Inductor with a Ferrite Core, 8.2 H 20% Wire-Wound 1.26A Idc; Manufacturer Part Number: SDR0403-8R2ML; Self Resonant Frequency: 36MHz; Q Factor: 28; Saturation Current: 1.9A; Shielding: Unshielded; Resistance: 47MR; DC Resistance (DCR): 130mR; Test Frequency: 1kHz; Supplier 1: Digi-Key; Manufacturer: Bourns; Stock 1: 2199; Pricing 1: 1=0,60000, 10=0,52300, 100=0,37380, 500=0,31396, 1000=0,25415 (USD); RoHS: Yes; Mount: Surface Mount; Case/Package: Nonstandard; Core Material: Ferrite; Min Operating Temperature: -40°C; Max Operating Temperature: 125°C; Package Quantity: 2000; Packaging: Tape and Reel; Tolerance: 20%; Inductance Tolerance: 20%; Current Rating: 1.26A; Inductance: 8.2u; Max DC Current: 1.26A; Termination: SMD/SMT; Composition: Wirewound; DC Current: 1.26A; Military Standard: Not; RMS Current (Irms): 1.26A; Diameter: 4.5mm; Length: 0.177inch; Height: 3.2mm; Width: 0.157inch; Height - Seated (Max): 0.126inch; Depth: 4.3mm; Radiation Hardening: No; REACH SVHC: No SVHC; ComponentLink1URL: https://datasheet.ciiva.com/1069/sdr0403-1069831.pdf?src-supplier=Digi-Key; ComponentLink1Description: https://datasheet.ciiva.com/1069/sdr0403-1069831.pdf?src-supplier=Digi-Key; ComponentLink2URL: https://datasheet.ciiva.com/22715/1577668-22715415.pdf?src-supplier=Element14; ComponentLink2Description: https://datasheet.ciiva.com/22715/1577668-22715415.pdf?src-supplier=Element14; ComponentLink3URL: https://datasheet.ciiva.com/1069/sdr0403-1069832.pdf?src-supplier=Digi-Key; ComponentLink3Description: https://datasheet.ciiva.com/1069/sdr0403-1069832.pdf?src-supplier=Digi-Key; ComponentLink4URL: https://datasheet.ciiva.com/1069/sdr0403-1069833.pdf?src-supplier=Digi-Key; ComponentLink4Description: https://datasheet.ciiva.com/1069/sdr0403-1069833.pdf?src-supplier=Digi-Key; ComponentLink5URL: https://datasheet.ciiva.com/48955/70153447-48955724.pdf?src-supplier=Allied+Electronics; ComponentLink5Description: https://datasheet.ciiva.com/48955/70153447-48955724.pdf?src-supplier=Allied+Electronics; ComponentLink6URL: https://datasheet.ciiva.com/48691/001056089-da-01-en-leis-indukt-sdr0403-8r2ml-8-2uh-1-26a-48691895.pdf?src-supplier=Conrad; ComponentLink6Description: https://datasheet.ciiva.com/48691/001056089-da-01-en-leis-indukt-sdr0403-8r2ml-8-2uh-1-26a-48691895.pdf?src-supplier=Conrad; Supplier Part Number 1: SDR0403-8R2MLCT-ND
footprint SDR0403-3.2 (Bourns SDR0403 Inductor)
pins: 1, 2

## SIT1533AI-H4-DCC-32.768E
designator G?  (value not drawn)
MEMS OSC XO 32.7680KHZ LVCMOS; Manufacturer: SiTime; Frequency: 32.768kHz; Frequency Stability: 100ppm; Max Supply Current: 1.4uA; Load Capacitance: 10pF; Min Supply Voltage: 1.5V; Max Supply Voltage: 3.63V; Current Rating: 1.35uA; Max Duty Cycle: 52%; Supplier 1: Digi-Key; Stock 1: 109619; Pricing 1: 1=1.21, 10=1.072, 50=1.0018, 100=0.8852, 500=0.83866 (USD); Mount: Surface Mount; Case/Package: SMD/SMT; Number of Pins: 4; Min Operating Temperature: -40°C; Max Operating Temperature: 85°C; Packaging: Tape and Reel; Termination: SMD/SMT; Package Quantity: 1000; Length: 0.079inch; Height: 0.024inch; Width: 0.047inch; Manufacturer Part Number: SIT1533AI-H4-DCC-32.768E; Supplier Part Number 1: 1473-1239-1-ND
footprint SIT1533
pins: 1 NC, 2 GND, 3 OUT, 4 VCC

## SL353HT
designator B?
HONEYWELL S&C   SL353HT   Hall Effect Sensor, Omnipolar, 330 A, SOT-23, 3, 2.2 V, 5.5 V; Manufacturer: Honeywell Sensing & Control; Max Output Current: 5mA; Operating Supply Current: 640uA; Output Type: Digital; Nominal Supply Current: 2.5mA; Min Supply Voltage: 2.2V; Max Supply Voltage: 5.5V; Operating Supply Voltage: 5V; Output Current: 330uA; Duty Cycle: 13%; Output Voltage: 250mV; Supplier 1: Digi-Key; Manufacturer Part Number: SL353HT; RoHS: Yes; Category: Magnetic Sensors; Stock 1: 7323; Pricing 1: 1=0,92000, 10=0,81000, 25=0,76240, 50=0,73060, 100=0,69880, 500=0,57172, 1000=0,50820 (USD); Mount: Surface Mount; Case/Package: SOT-23; Number of Pins: 3; Min Operating Temperature: -40°C; Max Operating Temperature: 85°C; Packaging: Tape and Reel; Type: Integrated Circuit (IC); Package Quantity: 1; Termination: SMD/SMT; Length: 2.9mm; Height: 1.2mm; Width: 1.6mm; REACH SVHC: No SVHC; ComponentLink1URL: https://datasheet.ciiva.com/22695/1676928-22695010.pdf?src-supplier=Element14; ComponentLink1Description: https://datasheet.ciiva.com/22695/1676928-22695010.pdf?src-supplier=Element14; ComponentLink2URL: https://datasheet.ciiva.com/5296/sl353-191381-5296856.pdf?src-supplier=Mouser; ComponentLink2Description: https://datasheet.ciiva.com/5296/sl353-191381-5296856.pdf?src-supplier=Mouser; Supplier Part Number 1: 480-3327-1-ND
footprint SOT95P232X100-3N (SOT23, 3-Leads, Body 2.92x2.32mm, Pitch 0.95mm, IPC Medium Density)
pins: 1 VCC (power), 2 OUT (out), 3 GND (power)

## SM02B-SRSS-TB(LF)(SN)
designator XP?  (value not drawn)
CONN HEADER SMD R/A 2POS 1MM; Manufacturer: JST; Number of Contacts: 2; Current Rating: 1A; Connector Type: Male Pin; Contact Resistance: 40mR; Voltage Rating (AC): 50V; Insulation Resistance: 100MR; Pitch: 0.039inch; ComponentLink1URL: https://datasheet.ciiva.com/26924/getdatasheetpartid-640850-26924055.pdf?src-supplier=Verical; ComponentLink1Description: https://datasheet.ciiva.com/26924/getdatasheetpartid-640850-26924055.pdf?src-supplier=Verical; ComponentLink2URL: https://datasheet.ciiva.com/712/esr-712467.pdf?src-supplier=Digi-Key; ComponentLink2Description: https://datasheet.ciiva.com/712/esr-712467.pdf?src-supplier=Digi-Key; ComponentLink3URL: https://datasheet.ciiva.com/712/esr-712468.pdf?src-supplier=Digi-Key; ComponentLink3Description: https://datasheet.ciiva.com/712/esr-712468.pdf?src-supplier=Digi-Key; ComponentLink4URL: https://datasheet.ciiva.com/730/esr-730600.pdf?src-supplier=Digi-Key; ComponentLink4Description: https://datasheet.ciiva.com/730/esr-730600.pdf?src-supplier=Digi-Key; ComponentLink5URL: https://datasheet.ciiva.com/8052/91630-8052284.pdf?src-supplier=Element14; ComponentLink5Description: https://datasheet.ciiva.com/8052/91630-8052284.pdf?src-supplier=Element14; ComponentLink6URL: https://datasheet.ciiva.com/16391/sm02b-srss-tblfsn-16391308.pdf?src-supplier=Future+Electronics; ComponentLink6Description: https://datasheet.ciiva.com/16391/sm02b-srss-tblfsn-16391308.pdf?src-supplier=Future+Electronics; Supplier 1: Digi-Key; Manufacturer Part Number: SM02B-SRSS-TB(LF)(SN); Stock 1: 130790; Pricing 1: 1=0,440000, 10=0,415000, 100=0,318500, 500=0,277000, 1000=0,228520 (USD); RoHS: Yes; Mount: Surface Mount; Contact Material: Copper Alloy,Copper; Color: Natural; Contact Plating: Tin,Copper,Lead; Housing Color: Beige; Housing Material: Polyamide; Material: Polyamide; Min Operating Temperature: -25°C; Max Operating Temperature: 85°C; Number of Rows: 1; Termination: Solder; Orientation: Right Angle; Packaging: Tape and Reel; Number of Positions: 2; Max Current Rating: 1A; Max Voltage Rating (AC): 50V; Length: 4mm; Lead Pitch: 1mm; Depth: 4.95mm; Lead Free: Lead Free; REACH SVHC: No SVHC; Flammability Rating: UL94 V-0; Supplier Part Number 1: 455-1802-1-ND
footprint SM02B-SRSS-TB(LF)(SN) (JST 1.0 mm pitch connector)
pins: 1, 2
text: Цепь; Конт.; PIN1; PIN2

## SM03B-SRSS-TB(LF)(SN)
designator XP?  (value not drawn)
JST (JAPAN SOLDERLESS TERMINALS) - SM03B-SRSS-TB(LF)(SN) - EMBASE COUDEE 3 VOIES; Number of Positions: 3; Connector Type: Male Pin; Current Rating: 1A; Contact Resistance: 40mR; Voltage Rating (AC): 50V; Insulation Resistance: 100MR; Gender: Male; Pitch: 0.039inch; Supplier 1: Digi-Key; Manufacturer: JST; Manufacturer Part Number: SM03B-SRSS-TB(LF)(SN); Stock 1: 141871; Pricing 1: 1=0,530000, 10=0,494000, 100=0,379000, 500=0,329600, 1000=0,271920 (USD); RoHS: Yes; Mount: Surface Mount; Contact Plating: Tin,Lead,Copper; Contact Material: Copper Alloy,Copper; Color: Natural; Housing Color: Beige; Housing Material: Polyamide; Material: Polyamide; Min Operating Temperature: -25°C; Max Operating Temperature: 85°C; Number of Rows: 1; Termination: Solder; Packaging: Tape and Reel; Number of Contacts: 3; Orientation: Right Angle; Max Current Rating: 1A; Max Voltage Rating (AC): 50V; Length: 5mm; Lead Pitch: 1mm; Depth: 4.95mm; Lead Free: Lead Free; REACH SVHC: No SVHC; Flammability Rating: UL94 V-0; ComponentLink1URL: https://datasheet.ciiva.com/26894/getdatasheetpartid-708885-26894671.pdf?src-supplier=Verical; ComponentLink1Description: https://datasheet.ciiva.com/26894/getdatasheetpartid-708885-26894671.pdf?src-supplier=Verical; ComponentLink2URL: https://datasheet.ciiva.com/16394/sm03b-srss-tblfsn-16394332.pdf?src-supplier=Future+Electronics; ComponentLink2Description: https://datasheet.ciiva.com/16394/sm03b-srss-tblfsn-16394332.pdf?src-supplier=Future+Electronics; ComponentLink3URL: https://datasheet.ciiva.com/8052/91630-8052263.pdf?src-supplier=Element14; ComponentLink3Description: https://datasheet.ciiva.com/8052/91630-8052263.pdf?src-supplier=Element14; Supplier Part Number 1: 455-1803-1-ND
footprint SM03B-SRSS-TB(LF)(SN) (JST 1.0 mm pitch connector)
pins: 1, 2, 3
text: Цепь; Конт.; PIN1; PIN2; PIN3

## SMAJ18A
designator VD?, comment SMAJ18A-13-F  (value not drawn)
Diode TVS Single Uni-Dir 18V 400W 2-Pin SMA T/R Description Diode TVS Single Uni-Dir 18V 400W 2-Pin SMA T/R; PartNo: SMAJ24A; Manufacturer: Diodes; Min Breakdown Voltage: 20V; Clamping Voltage: 29.2V; Polarity: Unidirectional; Peak Pulse Current: 13.7A; Number of Elements: 1; Max Surge Current: 40A; Test Current: 1mA; Leakage Current: 5uA; Power Line Protection: No; Max Breakdown Voltage: 22.1V; Capacitance: 580pF; Forward Voltage: 3.5V; Supplier 1: Digi-Key; Manufacturer Part Number: SMAJ18A-13-F; Stock 1: 36986; Pricing 1: 1=0.41, 10=0.311, 100=0.1937, 500=0.13256, 1000=0.10197 (USD); Mount: Surface Mount; Case/Package: SMA; Number of Pins: 2; Min Operating Temperature: -55°C; Max Operating Temperature: 150°C; Packaging: Tape and Reel; Reverse Standoff Voltage: 18V; Peak Pulse Power: 400W; Breakdown Voltage: 20V; Reverse Breakdown Voltage: 20V; Package Quantity: 5000; Termination: SMD/SMT; Max Power Dissipation: 400W; Direction: Unidirectional; Number of Unidirectional Channels: 1; Composition: Zener; Max Reverse Leakage Current: 5uA; Element Configuration: Single; Voltage Rating (DC): 18V; Power Dissipation: 400W; Working Voltage: 18V; Max Output Current: 13.7A; Length: 4.6mm; Height: 2.1mm; Width: 2.92mm; Radiation Hardening: No; Lead Free: Lead Free; Supplier Part Number 1: SMAJ18A-FDICT-ND; РКД Наименование: *
footprint DIOM4326X24N - SMA (Footprint not found)
pins: 1, 2

## SMLVN6RGB1W1
designator HL?
LED Tri-Color Blue/Green/Red Chip LED 6-Pin 1411 T/R; Manufacturer: Rohm; Colour: Blue,Green,Red; Lens Colour: White; Lens Transparency: Diffused; Luminous Intensity: 400mcd; Test Current: 20mA; Dominant Wavelength: 470nm; Lens Style: Colored,Rectangular; Forward Voltage: 3.3V; Number of LEDs: 3; РКД Наименование: SMLVN6RGB1W1 - RGB LED; PartNo: SMLVN6RGB1W1; Digikey: *; Supplier 1: Digi-Key; Manufacturer Part Number: SMLVN6RGB1W1; Stock 1: 27083; Pricing 1: 1=1.55, 10=1.263, 25=0.9712, 100=0.8742, 250=0.77704, 500=0.66048 (USD); Mount: Surface Mount; Case/Package: SMD/SMT; Number of Pins: 6; Packaging: Tape and Reel; Length: 3.1mm; Height: 0.7mm; Width: 2.8mm; Lead Free: Lead Free; Supplier Part Number 1: 846-1187-6-ND
footprint LED3528M (SMD LED 3.5x2.8 mm, 0.6mm height)
pins: 1 AB, 2 AR, 3 AG, 4 CG, 5 CR, 6 CB
1 alternate drawing of the same symbol